# EAGLE library part ESP-WROOM-32 (library LARS_409_MK)
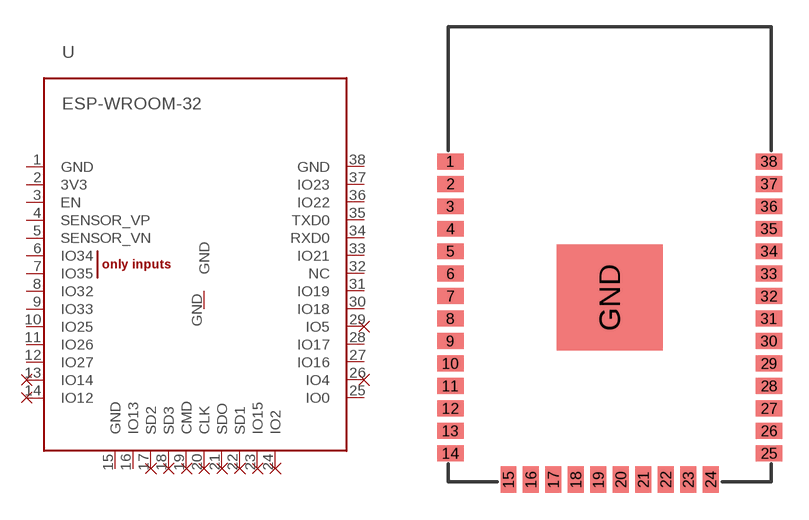
[diagram p1: symbol with the pads of ESP-WROOM-32; footprint ESP-WROOM-32]

Designator prefix U

## ESP-WROOM-32  [ESP-WROOM-32]
1  GND
2  3V3
3  EN
4  SENSOR_VP  in
5  SENSOR_VN  in
6  IO34  in
7  IO35  in
8  IO32
9  IO33
10  IO25
11  IO26
12  IO27
13  IO14
14  IO12
15  GND
16  IO13
17  SD2
18  SD3
19  CMD
20  CLK
21  SDO
22  SD1
23  IO15
24  IO2
25  IO0
26  IO4
27  IO16
28  IO17
29  IO5
30  IO18
31  IO19
32  NC
33  IO21
34  RXD0
35  TXD0
36  IO22
37  IO23
38  GND
GND  GND

## Footprint ESP-WROOM-32 (pad centres in mm)
smd 1.5 x 0.9: 1 -9,7.7; 2 -9,6.43; 3 -9,5.16; 4 -9,3.89; 5 -9,2.62; 6 -9,1.35; 7 -9,0.08; 8 -9,-1.19; 9 -9,-2.46; 10 -9,-3.73; 11 -9,-5; 12 -9,-6.27; 13 -9,-7.54; 14 -9,-8.81; 25 9,-8.81; 26 9,-7.54; 27 9,-6.27; 28 9,-5; 29 9,-3.73; 30 9,-2.46; 31 9,-1.19; 32 9,0.08; 33 9,1.35; 34 9,2.62; 35 9,3.89; 36 9,5.16; 37 9,6.43; 38 9,7.7
smd 0.9 x 1.5: 15 -5.715,-10.3; 16 -4.445,-10.3; 17 -3.175,-10.3; 18 -1.905,-10.3; 19 -0.635,-10.3; 20 0.635,-10.3; 21 1.905,-10.3; 22 3.175,-10.3; 23 4.445,-10.3; 24 5.715,-10.3
smd 6 x 6: GND 0,0